# EAGLE library part ETH_MAG (library Domino)
10/100Base Single Port Ethernet Magnetics
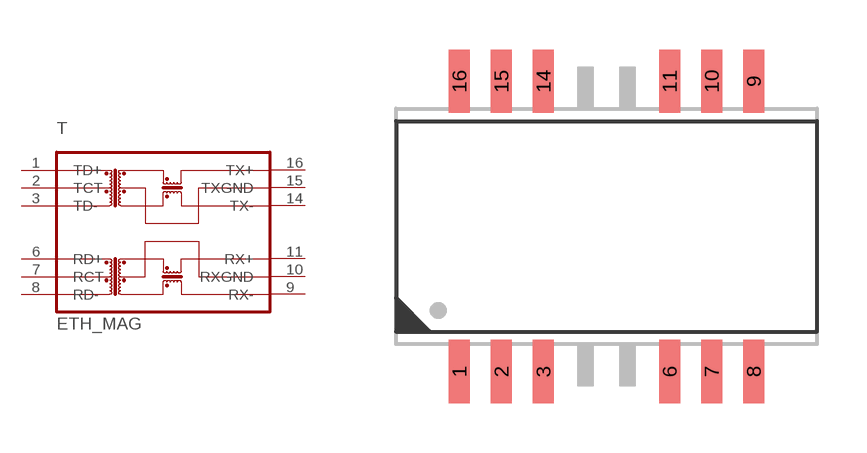
[diagram p51: symbol with the pads of S16116_G; footprint S16116_G]

Designator prefix T

## ETH_MAG  [S16116_G]
1  TD+  pas
2  TCT  pas
3  TD-  pas
6  RD+  pas
7  RCT  pas
8  RD-  pas
9  RX-  pas
10  RXGND  pwr
11  RX+  pas
14  TX-  pas
15  TXGND  pwr
16  TX+  pas

## Footprint S16116_G (pad centres in mm)
10/100Base SMD Transformer 1CT:1CT, 350 µH @ 100 kHz, -1.10 dB Max IL 1-100 MHz
smd 0.635 x 1.905: 1 -4.445,-4.381; 2 -3.175,-4.381; 3 -1.905,-4.381; 6 1.905,-4.381; 7 3.175,-4.381; 8 4.445,-4.381; 9 4.445,4.381; 10 3.175,4.381; 11 1.905,4.381; 14 -1.905,4.381; 15 -3.175,4.381; 16 -4.445,4.381